# Altium footprint library 61400413321.PcbLib: 1 footprints
Each footprint in its own frame and in the unit in brackets; x right, y up, seen from the top. Pads: shape width x height; smd on the part's side, far side on the other; paste and mask are expansions set on the pad; w line width, h text height; cw(c..) or ccw(c..) is an arc to the next point about the centre after c.
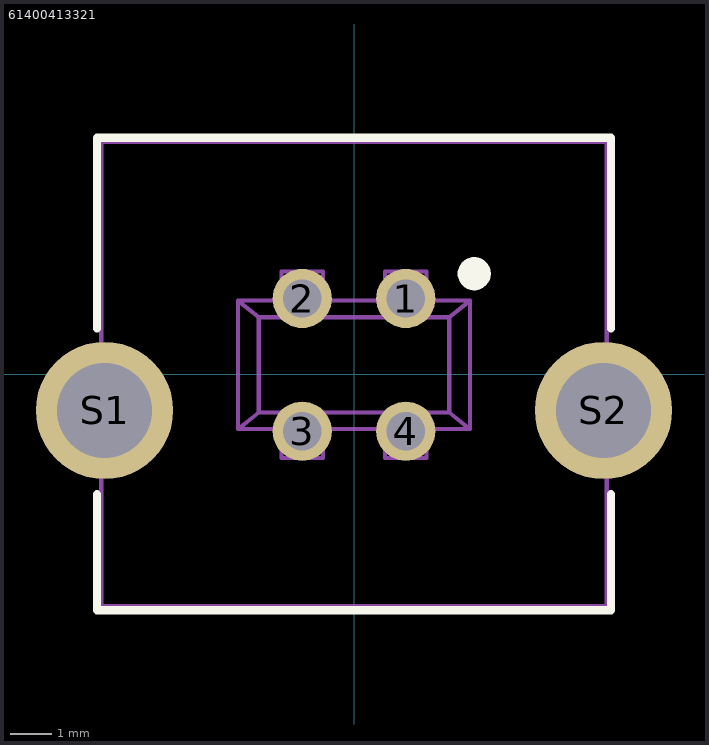
[diagram p0: the footprint, top view; thin cyan lines are the x and y axes]

## 61400413321 [mm]
pads (6):
  round 1.428 hole 0.92: 1(1.25,1.82) 2(-1.25,1.82) 3(-1.25,-1.38) 4(1.25,-1.38)
  round 3.316 hole 2.3: S1(-6.02,-0.88) S2(6.02,-0.88)
Top Overlay:
  circle w0.4: c2.9,2.42 r0.2
  lines w0.2: -6.2,-2.9 -6.2,-5.7 6.2,-5.7 6.2,-2.9 ; -6.2,1.1 -6.2,5.7 6.2,5.7 6.2,1.1
Mechanical 13:
  lines w0.1: -1.75,1.82 -1.75,2.47 -0.75,2.47 -0.75,1.82 ; 0.75,1.82 0.75,2.47 1.75,2.47 1.75,1.82 ; -2.8,-1.33 -2.3,-0.93 ; -2.8,-1.33 -2.8,1.77 ; -2.8,-1.33 2.8,-1.33 ; -2.8,1.77 -2.3,1.37 ; -2.8,1.77 2.8,1.77 ; -2.3,-0.93 -2.3,1.37 ; -2.3,-0.93 2.3,-0.93 ; -2.3,1.37 2.3,1.37 ; 2.3,-0.93 2.8,-1.33 ; 2.3,-0.93 2.3,1.37 ; 2.3,1.37 2.8,1.77 ; 2.8,-1.33 2.8,1.77 ; -6.1,-5.6 6.1,-5.6 6.1,5.6 -6.1,5.6 -6.1,-5.6
  lines w0.102: -1.75,-1.38 -1.75,-2.03 -0.75,-2.03 -0.75,-1.38 ; 0.75,-1.38 0.75,-2.03 1.75,-2.03 1.75,-1.38